# Altium integrated library Aircopter.IntLib: 3 symbols
Pins are listed as number, name and electrical type; pins without a type are passive.

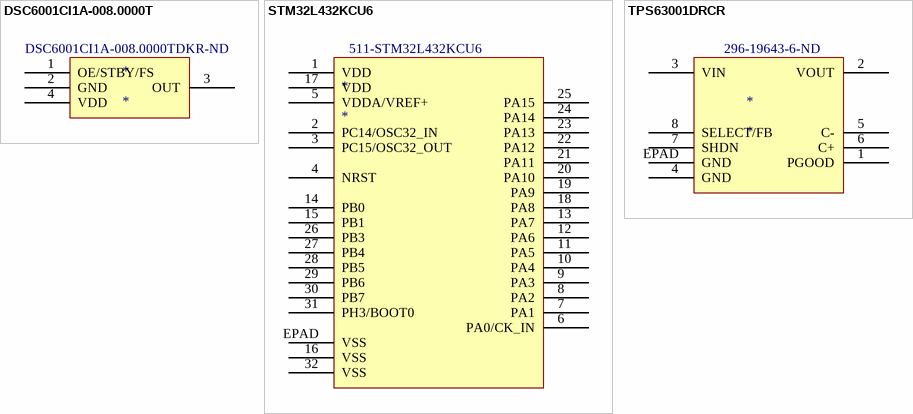
[diagram p0: symbols DSC6001CI1A-008.0000T to TPS63001DRCR]

## DSC6001CI1A-008.0000T
designator *  Supplier Part Number 1: DSC6001CI1A-008.0000TDKR-ND
Manufacturer: Microchip; Manufacturer Part Number: DSC6001CI1A-008.0000T; Supplier 1: Digi-Key; Stock 1: 1311; Pricing 1: 1=0.87, 50=0.721 (USD)
footprint Model Name (Model Description)
footprint VFLGA4
pins: 1 OE/STBY/FS, 2 GND, 3 OUT, 4 VDD

## STM32L432KCU6
designator *  Supplier Part Number 1: 511-STM32L432KCU6
16/32-BITS MICROS; Manufacturer: STMicroelectronics; Manufacturer Part Number: STM32L432KCU6; Supplier 1: Mouser; Stock 1: 6394; Pricing 1: 1=5.55, 10=4.72, 50=4.72, 100=4.09, 1000=2.94, 10000=2.79 (USD); Number of Pins: 32; Lead Free: Lead Free
footprint QFN32_5x5mm
pins: 1 VDD, 2 PC14/OSC32_IN, 3 PC15/OSC32_OUT, 4 NRST, 5 VDDA/VREF+, 6 PA0/CK_IN, 7 PA1, 8 PA2, 9 PA3, 10 PA4, 11 PA5, 12 PA6, 13 PA7, 14 PB0, 15 PB1, 16 VSS, 17 VDD, 18 PA8, 19 PA9, 20 PA10, 21 PA11, 22 PA12, 23 PA13, 24 PA14, 25 PA15, 26 PB3, 27 PB4, 28 PB5, 29 PB6, 30 PB7, 31 PH3/BOOT0, 32 VSS, EPAD VSS

## TPS63001DRCR
designator *  Supplier Part Number 1: 296-19643-6-ND
IC REG BUCK BST 3.3V 1.6A 10SON; Manufacturer: Texas Instruments; Manufacturer Part Number: TPS63001DRCR; Switching Frequency: 1.5MHz; Efficiency: 96%; Number of Outputs: 1; Output Current: 1.2A; Max Input Voltage: 5.5V; Min Input Voltage: 1.8V; Synchronous Rectifier: Yes; Quiescent Current: 30uA; Output Type: Fixed; Topology: Buck-Boost; Supplier 1: Digi-Key; Stock 1: 260; Pricing 1: 1=2.27, 10=2.042, 100=1.641, 500=1.3483, 1000=1.1171 (USD); Number of Pins: 10; Weight: 0.000921oz; Contact Plating: Gold; Min Operating Temperature: -40°C; Max Operating Temperature: 85°C; Packaging: Tape and Reel; Output Voltage: 3.3V; Package Quantity: 1; Max Output Current: 1.2A; Min Output Voltage: 3.3V; Max Output Voltage: 3.3V; Operating Supply Voltage: 5.5V; Nominal Output Voltage: 3.3V; Radiation Hardening: No; Lead Free: Lead Free; REACH SVHC: No SVHC; ComponentLink1URL: http://www.ti.com/lit/ds/symlink/tps63001.pdf; ComponentLink1Description: http://www.ti.com/lit/ds/symlink/tps63001.pdf; ComponentLink2URL: http://www.farnell.com/datasheets/1854797.pdf; ComponentLink2Description: http://www.farnell.com/datasheets/1854797.pdf; ComponentLink3URL: https://www.verical.com/server-webapp/html/getDatasheet?partID=188339; ComponentLink3Description: https://www.verical.com/server-webapp/html/getDatasheet?partID=188339; ComponentLink4URL: http://focus.ti.com/lit/ds/symlink/tps63001.pdf; ComponentLink4Description: http://focus.ti.com/lit/ds/symlink/tps63001.pdf; ComponentLink5URL: http://www.ti.com/general/docs/lit/getliterature.tsp?genericPartNumber=TPS63002&&fileType=pdf; ComponentLink5Description: http://www.ti.com/general/docs/lit/getliterature.tsp?genericPartNumber=TPS63002&&fileType=pdf; ComponentLink6URL: http://www.ti.com/general/docs/lit/getliterature.tsp?genericPartNumber=TPS63001&&fileType=pdf; ComponentLink6Description: http://www.ti.com/general/docs/lit/getliterature.tsp?genericPartNumber=TPS63001&&fileType=pdf; ComponentLink7URL: http://www.farnell.com/datasheets/2018926.pdf; ComponentLink7Description: http://www.farnell.com/datasheets/2018926.pdf; ComponentLink8URL: http://datasheet.iiic.cc/texas_instruments/TPS63001DRCR.pdf; ComponentLink8Description: http://datasheet.iiic.cc/texas_instruments/TPS63001DRCR.pdf; ComponentLink9URL: http://www.produktinfo.conrad.com/datenblaetter/1000000-1099999/001014938-da-01-en-IC_REG_BUCK_BST_TPS63001DRCR_VSON_10_TID.pdf; ComponentLink9Description: http://www.produktinfo.conrad.com/datenblaetter/1000000-1099999/001014938-da-01-en-IC_REG_BUCK_BST_TPS63001DRCR_VSON_10_TID.pdf
footprint VSON10
pins: 1 PGOOD, 2 VOUT, 3 VIN, 4 GND, 5 C-, 6 C+, 7 SHDN, 8 SELECT/FB, EPAD GND